# Altium schematic symbol library OP184.Schlib: 1 symbol
Pins are listed as number, name and electrical type; pins without a type are passive.

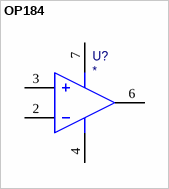
[diagram p0: symbol OP184]

## OP184
designator U?
pins: 1 DNC hidden, 2 -IN A, 3 +IN A, 4 V-, 5 DNC hidden, 6 OUTA, 7 V+, 8 DNC hidden